# EAGLE library part ATTINY85* (library atmega-atxmega)
ATMEL ATtiny 85 Packages: P = PDIP 08 30mil S = SOIC 08 EIAJ 208mil Technologies Note: for complete ordering code (temp. range, finish, tape&reel etc.) see www.atmel.com • Supply Voltage: V = (1.8…5.5)V | [blank] = (2.7…5.5)V • Speed: 10 = 10 MHz | 20 = 20 MHz Author: Dipl.-Ing. FH Rainer Bayer HHN Hochschule Heilbronn (Heilbronn University), rainer.bayer@hs-heilbronn.de Ingenieurbüro ing-rb, mail@ing-rb.de
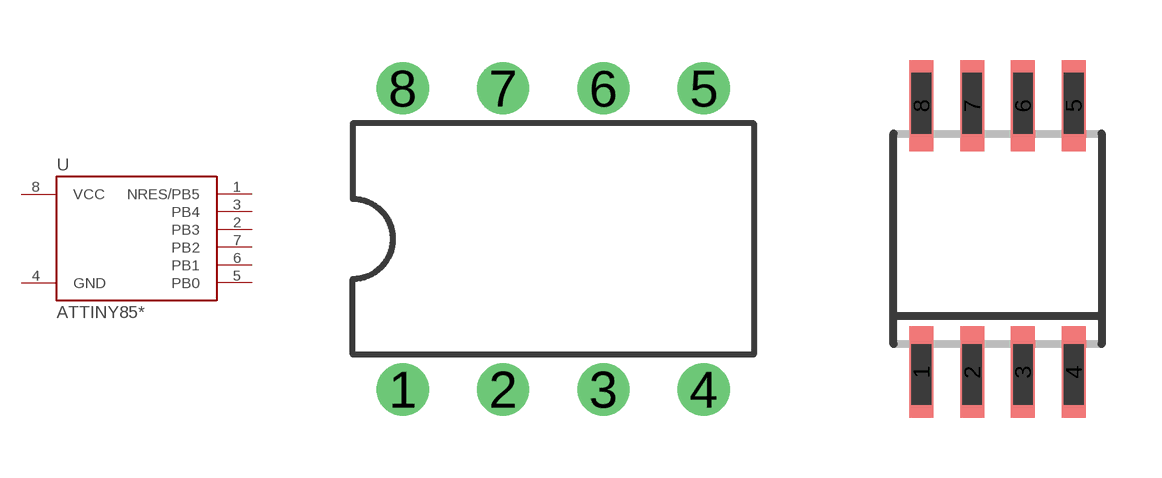
[diagram p101: symbol with the pads of PDIP08_300MIL; footprints PDIP08_300MIL, SOIC8_EIAJ_208MIL]

Designator prefix U

## ATTINY85-P, ATTINY85-20P, ATTINY85V-10P  [PDIP08_300MIL]
1  NRES/PB5
2  PB3
3  PB4
4  GND  pwr
5  PB0
6  PB1
7  PB2
8  VCC  pwr

## ATTINY85-S, ATTINY85-20S, ATTINY85V-10S  [SOIC8_EIAJ_208MIL]
Pads as for PDIP08_300MIL

## Footprint PDIP08_300MIL (pad centres in mm)
DIL08 300mil
drill 0.813: 1 -3.81,-3.81; 2 -1.27,-3.81; 3 1.27,-3.81; 4 3.81,-3.81; 5 3.81,3.81; 6 1.27,3.81; 7 -1.27,3.81; 8 -3.81,3.81

## Footprint SOIC8_EIAJ_208MIL (pad centres in mm)
Small Outline Medium Plastic Gull Wing 208-mil body
smd 0.6 x 2.286: 1 -1.905,-3.33; 2 -0.635,-3.33; 3 0.635,-3.33; 4 1.905,-3.33; 5 1.905,3.33; 6 0.635,3.33; 7 -0.635,3.33; 8 -1.905,3.33